# EAGLE library part CSD97374Q4M (library QUAD_ICs)
nFET Synchronous Buck NexFET Power Stage CSD97374Q4M
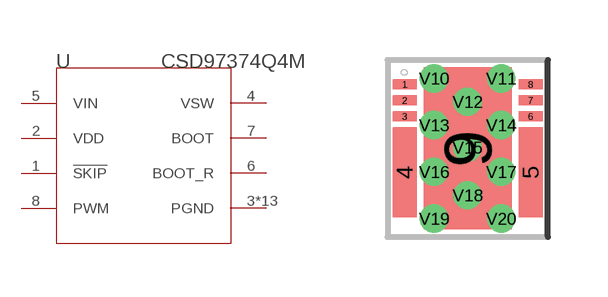
[diagram p6: symbol with the pads of DPC8; footprint DPC8]

Designator prefix U

## CSD97374Q4M (MANUFACTURER_PART_NUMBER: CSD97374Q4M; VENDOR: TEXAS INSTRUMENTS)  [DPC8]
1  !SKIP  pas
2  VDD  pwr
3  PGND  pwr
4  VSW  out
5  VIN  in
6  BOOT_R  pas
7  BOOT  pas
8  PWM  pwr
9  PGND  pwr
V10  PGND  pwr
V11  PGND  pwr
V12  PGND  pwr
V13  PGND  pwr
V14  PGND  pwr
V15  PGND  pwr
V16  PGND  pwr
V17  PGND  pwr
V18  PGND  pwr
V19  PGND  pwr
V20  PGND  pwr

## Footprint DPC8 (pad centres in mm)
smd 0.6 x 0.25: 1 -1.575,1.6; 2 -1.575,1.2; 3 -1.575,0.8; 6 1.575,0.8; 7 1.575,1.2; 8 1.575,1.6
smd 0.6 x 2.25: 4 -1.575,-0.6; 5 1.575,-0.6
smd 2.2 x 4.05: 9 0,0
drill 0.2 pad 0.5: V10 -0.838,1.753; V11 0.838,1.753; V12 0,1.168; V13 -0.838,0.584; V14 0.838,0.584; V15 0,0.025; V16 -0.838,-0.584; V17 0.838,-0.584; V18 0,-1.168; V19 -0.838,-1.753; V20 0.838,-1.753